# Altium footprint library WS-TASL.PcbLib: 1 footprints
Each footprint in its own frame and in the unit in brackets; x right, y up, seen from the top. Pads: shape width x height; smd on the part's side, far side on the other; paste and mask are expansions set on the pad; w line width, h text height; cw(c..) or ccw(c..) is an arc to the next point about the centre after c.
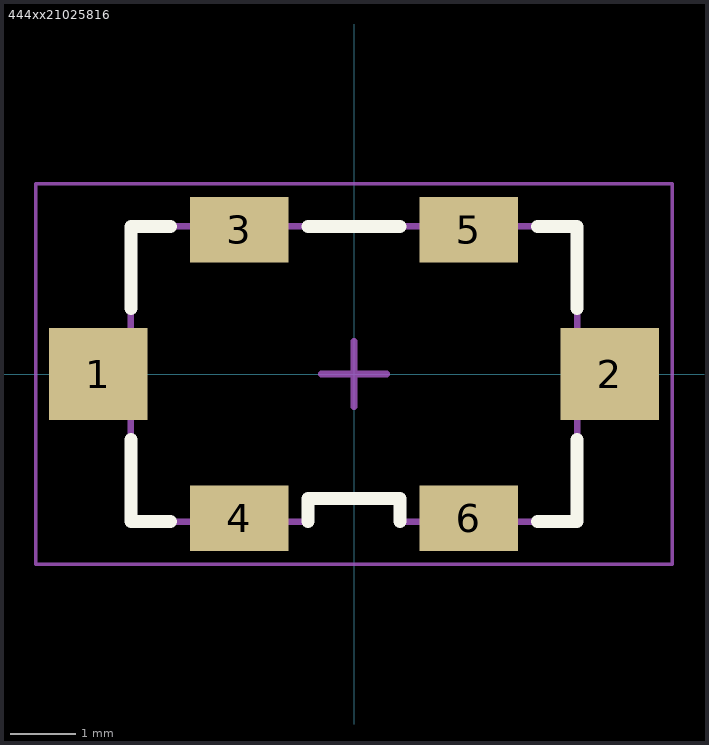
[diagram p0: the footprint, top view; thin cyan lines are the x and y axes]

## 444xx21025816 [mm] "6.8x4.5 mm SMD illuminated"
height 2.5
pads (6):
  rect 1.5x1.4 smd: 1(-3.9,0) 2(3.9,0)
  rect 1.5x1 smd: 3(-1.75,2.2) 4(-1.75,-2.2) 5(1.75,2.2) 6(1.75,-2.2)
Top Overlay:
  lines w0.2: -3.4,-1 -3.4,-2.25 -2.8,-2.25 ; -3.4,1 -3.4,2.25 -2.8,2.25 ; -0.7,-2.25 -0.7,-1.9 0.7,-1.9 0.7,-2.25 ; -0.7,2.25 0.7,2.25 ; 2.8,-2.25 3.4,-2.25 3.4,-1 ; 2.8,2.25 3.4,2.25 3.4,1
Top Assembly:
  lines w0.1: -3.4,-0.25 -4,-0.25 -4,0.25 -3.4,0.25 ; 3.4,-0.25 4,-0.25 4,0.25 3.4,0.25 ; -3.4,-2.25 -0.7,-2.25 -0.7,-1.9 0.7,-1.9 0.7,-2.25 3.4,-2.25 3.4,2.25 -3.4,2.25 -3.4,-2.25
Top Designator:
  text ".Designator" at -3.647,-0.357 h1
Top Courtyard:
  lines w0.05: -4.85,-2.9 4.85,-2.9 4.85,2.9 -4.85,2.9 -4.85,-2.9
Top Component Center:
  lines w0.1: -0.5,0 0.5,0 ; 0,-0.5 0,0.5
3D body "444xx21025816.stp": height 2.6, standoff 0.1, extent -4,-2.3 4,2.3